# Altium integrated library Integrated_Library_connectors.IntLib: 6 symbols
Pins are listed as number, name and electrical type; pins without a type are passive.

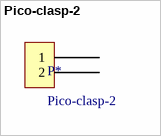
[diagram p0: symbol Pico-clasp-2]

## Pico-clasp-2
designator P*
2 pins
footprint 2 pins pico-clasp
pins: 1, 1 2


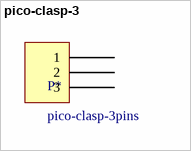
[diagram p1: symbol pico-clasp-3]

## pico-clasp-3
designator P*, comment pico-clasp-3pins
3 pins pico clasp
footprint 3 pins pico-clasp
pins: 1, 2, 3


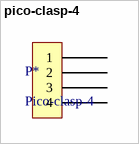
[diagram p2: symbol pico-clasp-4]

## pico-clasp-4
designator P*, comment Pico-clasp-4
4 pins
footprint 4 pins pico-clasp
pins: 1, 1 2, 3, 4


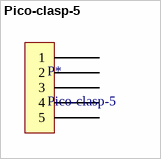
[diagram p3: symbol Pico-clasp-5]

## Pico-clasp-5
designator P*
5 pins
footprint 5 pins pico-clasp
pins: 1, 1 2, 3, 4, 5


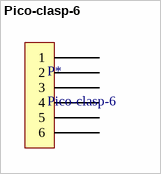
[diagram p4: symbol Pico-clasp-6]

## Pico-clasp-6
designator P*
6 pins
footprint 6 pins pico-clasp
pins: 1, 1 2, 3, 4, 5, 6


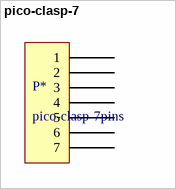
[diagram p5: symbol pico-clasp-7]

## pico-clasp-7
designator P*, comment pico-clasp-7pins
7 pins pico clasp; Designator: P*
footprint 7 pins pico-clasp
pins: 1, 2, 3, 4, 5, 6, 7